# Altium integrated library Hirose_BK13H-40DS.IntLib: 1 symbol
Pins are listed as number, name and electrical type; pins without a type are passive.

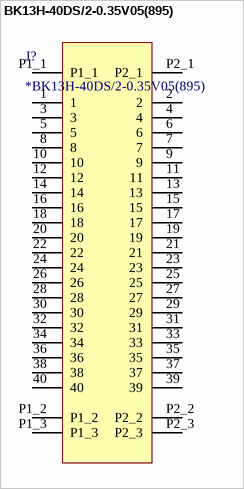
[diagram p0: symbol BK13H-40DS/2-0.35V05(895)]

## BK13H-40DS/2-0.35V05(895)
designator J?, comment *BK13H-40DS/2-0.35V05(895)
Board to Board & Mezzanine Connectors Receptacle, 0.35mm Pitch, 40 Pos., 5.0A, AC 50.0 V, DC 50.0 V, Mated Height 1.5mm Max.; Manufacturer_Name: Hirose Electric Co Ltd; Manufacturer_Part_Number: BK13H-40DS/2-0.35V05(895); ComponentLink1Description: Mouser; ComponentLink1URL: https://www.mouser.co.id/ProductDetail/Hirose-Connector/BK13H-40DS-2-0.35V05895?qs=G4MbTVxgV4HOxNmXEv4uuA%3D%3D; ComponentLink2Description: Datasheet; ComponentLink2URL: https://www.hirose.com/en/product/document?clcode=CL0480-1093-0-95&productname=BK13H-40DS%2f2-0.35V05(895)&series=BK13C&documenttype=2DDrawing&lang=en&documentid=BK13H-40DS2-0.35V05(895)_2D_ENG_4801093095
footprint BK13H-40DS/2-0.35V05(895) (Board to Board & Mezzanine Connectors Receptacle, 0.35mm Pitch, 40 Pos., 5.0A, AC 50.0 V, DC 50.0 V, Mated Height 1.5mm Max.)
pins: 1, 2, 3, 4, 5, 6, 7, 8, 9, 10, 11, 12, 13, 14, 15, 16, 17, 18, 19, 20, 21, 22, 23, 24, 25, 26, 27, 28, 29, 30, 31, 32, 33, 34, 35, 36, 37, 38, 39, 40, P1_1 (power), P1_2 (power), P1_3 (power), P2_1 (power), P2_2 (power), P2_3 (power)